# EAGLE library part SSW-119-02-S-T (library con-samtec)
THROUGH-HOLE .025" SQ POST SOCKET Source: Samtec SSW.pdf
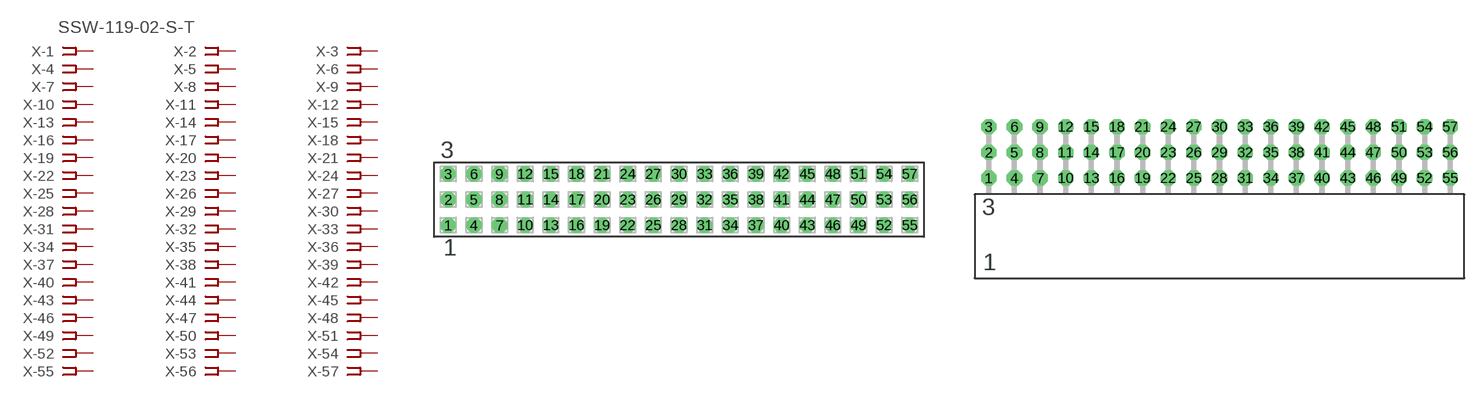
[diagram p37: symbol with the pads of SSW-119-02-S-T; footprints SSW-119-02-S-T, SSW-119-02-S-T-RA]

Designator prefix X; gates -1=FPINV -2=FPIN -3=FPIN -4=FPIN -5=FPIN -6=FPIN -7=FPIN -8=FPIN -9=FPIN -10=FPIN -11=FPIN -12=FPIN -13=FPIN -14=FPIN -15=FPIN -16=FPIN -17=FPIN -18=FPIN -19=FPIN -20=FPIN -21=FPIN -22=FPIN -23=FPIN -24=FPIN -25=FPIN -26=FPIN -27=FPIN -28=FPIN -29=FPIN -30=FPIN -31=FPIN -32=FPIN -33=FPIN -34=FPIN -35=FPIN -36=FPIN -37=FPIN -38=FPIN -39=FPIN -40=FPIN -41=FPIN -42=FPIN -43=FPIN -44=FPIN -45=FPIN -46=FPIN -47=FPIN -48=FPIN -49=FPIN -50=FPIN -51=FPIN -52=FPIN -53=FPIN -54=FPIN -55=FPIN -56=FPIN -57=FPIN

## SSW-119-02-S-T  [SSW-119-02-S-T]
1  -1:1  pas
2  -2:1  pas
3  -3:1  pas
4  -4:1  pas
5  -5:1  pas
6  -6:1  pas
7  -7:1  pas
8  -8:1  pas
9  -9:1  pas
10  -10:1  pas
11  -11:1  pas
12  -12:1  pas
13  -13:1  pas
14  -14:1  pas
15  -15:1  pas
16  -16:1  pas
17  -17:1  pas
18  -18:1  pas
19  -19:1  pas
20  -20:1  pas
21  -21:1  pas
22  -22:1  pas
23  -23:1  pas
24  -24:1  pas
25  -25:1  pas
26  -26:1  pas
27  -27:1  pas
28  -28:1  pas
29  -29:1  pas
30  -30:1  pas
31  -31:1  pas
32  -32:1  pas
33  -33:1  pas
34  -34:1  pas
35  -35:1  pas
36  -36:1  pas
37  -37:1  pas
38  -38:1  pas
39  -39:1  pas
40  -40:1  pas
41  -41:1  pas
42  -42:1  pas
43  -43:1  pas
44  -44:1  pas
45  -45:1  pas
46  -46:1  pas
47  -47:1  pas
48  -48:1  pas
49  -49:1  pas
50  -50:1  pas
51  -51:1  pas
52  -52:1  pas
53  -53:1  pas
54  -54:1  pas
55  -55:1  pas
56  -56:1  pas
57  -57:1  pas

## SSW-119-02-S-TRA  [SSW-119-02-S-T-RA]
Pads as for SSW-119-02-S-T

## Footprint SSW-119-02-S-T (pad centres in mm)
THROUGH-HOLE .025" SQ POST SOCKET Source: Samtec SSW.pdf
drill 1 pad 1.5 octagon: 1 -22.86,-2.54; 2 -22.86,0; 3 -22.86,2.54; 4 -20.32,-2.54; 5 -20.32,0; 6 -20.32,2.54; 7 -17.78,-2.54; 8 -17.78,0; 9 -17.78,2.54; 10 -15.24,-2.54; 11 -15.24,0; 12 -15.24,2.54; 13 -12.7,-2.54; 14 -12.7,0; 15 -12.7,2.54; 16 -10.16,-2.54; 17 -10.16,0; 18 -10.16,2.54; 19 -7.62,-2.54; 20 -7.62,0; 21 -7.62,2.54; 22 -5.08,-2.54; 23 -5.08,0; 24 -5.08,2.54; 25 -2.54,-2.54; 26 -2.54,0; 27 -2.54,2.54; 28 0,-2.54; 29 0,0; 30 0,2.54; 31 2.54,-2.54; 32 2.54,0; 33 2.54,2.54; 34 5.08,-2.54; 35 5.08,0; 36 5.08,2.54; 37 7.62,-2.54; 38 7.62,0; 39 7.62,2.54; 40 10.16,-2.54; 41 10.16,0; 42 10.16,2.54; 43 12.7,-2.54; 44 12.7,0; 45 12.7,2.54; 46 15.24,-2.54; 47 15.24,0; 48 15.24,2.54; 49 17.78,-2.54; 50 17.78,0; 51 17.78,2.54; 52 20.32,-2.54; 53 20.32,0; 54 20.32,2.54; 55 22.86,-2.54; 56 22.86,0; 57 22.86,2.54

## Footprint SSW-119-02-S-T-RA (pad centres in mm)
THROUGH-HOLE .025" SQ POST SOCKET Source: Samtec SSW.pdf
drill 1 pad 1.5 octagon: 1 -22.86,1.524; 2 -22.86,4.064; 3 -22.86,6.604; 4 -20.32,1.524; 5 -20.32,4.064; 6 -20.32,6.604; 7 -17.78,1.524; 8 -17.78,4.064; 9 -17.78,6.604; 10 -15.24,1.524; 11 -15.24,4.064; 12 -15.24,6.604; 13 -12.7,1.524; 14 -12.7,4.064; 15 -12.7,6.604; 16 -10.16,1.524; 17 -10.16,4.064; 18 -10.16,6.604; 19 -7.62,1.524; 20 -7.62,4.064; 21 -7.62,6.604; 22 -5.08,1.524; 23 -5.08,4.064; 24 -5.08,6.604; 25 -2.54,1.524; 26 -2.54,4.064; 27 -2.54,6.604; 28 0,1.524; 29 0,4.064; 30 0,6.604; 31 2.54,1.524; 32 2.54,4.064; 33 2.54,6.604; 34 5.08,1.524; 35 5.08,4.064; 36 5.08,6.604; 37 7.62,1.524; 38 7.62,4.064; 39 7.62,6.604; 40 10.16,1.524; 41 10.16,4.064; 42 10.16,6.604; 43 12.7,1.524; 44 12.7,4.064; 45 12.7,6.604; 46 15.24,1.524; 47 15.24,4.064; 48 15.24,6.604; 49 17.78,1.524; 50 17.78,4.064; 51 17.78,6.604; 52 20.32,1.524; 53 20.32,4.064; 54 20.32,6.604; 55 22.86,1.524; 56 22.86,4.064; 57 22.86,6.604